# Altium schematic symbol library bias_sensor.SchLib: 2 symbols
Pins are listed as number, name and electrical type; pins without a type are passive.

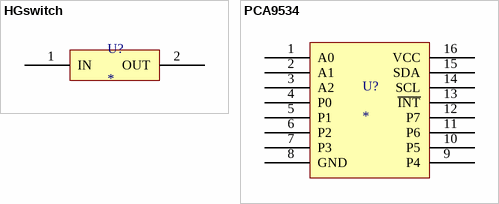
[diagram p0: symbols HGswitch to PCA9534]

## HGswitch
designator U?
footprint HG-V
footprint HG-H
pins: 1 IN, 2 OUT

## PCA9534
designator U?
footprint TSSOP16 (Shrink Small Outline; 16 Leads; Body Width 4.4 mm; Pitch 0.65 mm)
pins: 1 A0, 2 A1, 3 A2, 4 P0, 5 P1, 6 P2, 7 P3, 8 GND, 9 P4, 10 P5, 11 P6, 12 P7, 13 ~{INT}, 14 SCL, 15 SDA, 16 VCC